# Altium schematic symbol library SCH - MCU - TI - TI MSPM0C110X SOT-16 DYY.SchLib: 1 symbol
Pins are listed as number, name and electrical type; pins without a type are passive.

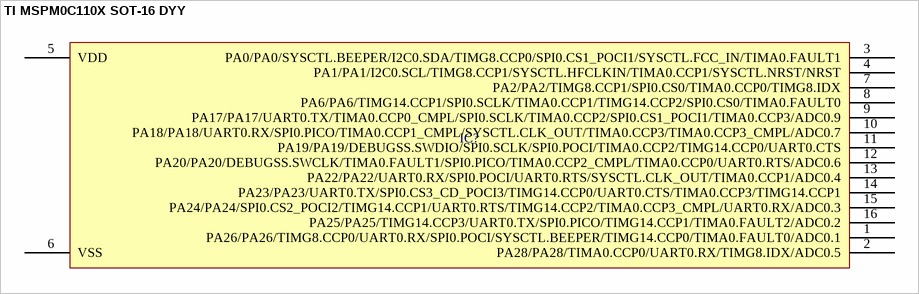
[diagram p0: symbol TI MSPM0C110X SOT-16 DYY]

## TI MSPM0C110X SOT-16 DYY
designator IC?
pins: 1 PA26/PA26/TIMG8.CCP0/UART0.RX/SPI0.POCI/SYSCTL.BEEPER/TIMG14.CCP0/TIMA0.FAULT0/ADC0.1, 2 PA28/PA28/TIMA0.CCP0/UART0.RX/TIMG8.IDX/ADC0.5, 3 PA0/PA0/SYSCTL.BEEPER/I2C0.SDA/TIMG8.CCP0/SPI0.CS1_POCI1/SYSCTL.FCC_IN/TIMA0.FAULT1, 4 PA1/PA1/I2C0.SCL/TIMG8.CCP1/SYSCTL.HFCLKIN/TIMA0.CCP1/SYSCTL.NRST/NRST, 5 VDD, 6 VSS, 7 PA2/PA2/TIMG8.CCP1/SPI0.CS0/TIMA0.CCP0/TIMG8.IDX, 8 PA6/PA6/TIMG14.CCP1/SPI0.SCLK/TIMA0.CCP1/TIMG14.CCP2/SPI0.CS0/TIMA0.FAULT0, 9 PA17/PA17/UART0.TX/TIMA0.CCP0_CMPL/SPI0.SCLK/TIMA0.CCP2/SPI0.CS1_POCI1/TIMA0.CCP3/ADC0.9, 10 PA18/PA18/UART0.RX/SPI0.PICO/TIMA0.CCP1_CMPL/SYSCTL.CLK_OUT/TIMA0.CCP3/TIMA0.CCP3_CMPL/ADC0.7, 11 PA19/PA19/DEBUGSS.SWDIO/SPI0.SCLK/SPI0.POCI/TIMA0.CCP2/TIMG14.CCP0/UART0.CTS, 12 PA20/PA20/DEBUGSS.SWCLK/TIMA0.FAULT1/SPI0.PICO/TIMA0.CCP2_CMPL/TIMA0.CCP0/UART0.RTS/ADC0.6, 13 PA22/PA22/UART0.RX/SPI0.POCI/UART0.RTS/SYSCTL.CLK_OUT/TIMA0.CCP1/ADC0.4, 14 PA23/PA23/UART0.TX/SPI0.CS3_CD_POCI3/TIMG14.CCP0/UART0.CTS/TIMA0.CCP3/TIMG14.CCP1, 15 PA24/PA24/SPI0.CS2_POCI2/TIMG14.CCP1/UART0.RTS/TIMG14.CCP2/TIMA0.CCP3_CMPL/UART0.RX/ADC0.3, 16 PA25/PA25/TIMG14.CCP3/UART0.TX/SPI0.PICO/TIMG14.CCP1/TIMA0.FAULT2/ADC0.2